# Altium schematic symbol library AMB8.SchLib: 1 symbol
Pins are listed as number, name and electrical type; pins without a type are passive.

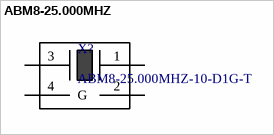
[diagram p0: symbol ABM8-25.000MHZ]

## ABM8-25.000MHZ
designator X?, comment ABM8-25.000MHZ-10-D1G-T
25MHz ±10ppm Crystal 10pF 50 Ohms 4-SMD, No Lead
footprint ABM8_3P20X2P5 (AMB8)
pins: 1, 2, 3, 4 G